# Altium schematic symbol library RCA12060000ZSEA.SchLib: 1 symbol
Pins are listed as number, name and electrical type; pins without a type are passive.

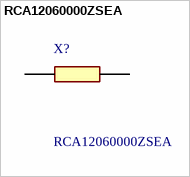
[diagram p0: symbol RCA12060000ZSEA]

## RCA12060000ZSEA
designator X?
Thick Film Resistors - SMD Zero-Ohm Resist 3.5A; Manufacturer_Name: Vishay; Geometry.Height: 0.6mm; Mouser Part Number: 71-RCA12060000ZSEA; Mouser Price/Stock: https://www.mouser.co.uk/ProductDetail/Vishay-Draloric/RCA12060000ZSEA?qs=4%252Ber4tcBTOgzMfDdqtZgmA%3D%3D; Manufacturer_Part_Number: RCA12060000ZSEA; Datasheet Link: https://www.mouser.in/datasheet/2/427/rcae3-1761931.pdf
footprint RESC3216X60N
pins: 1, 2